# Altium footprint library PCB_main_single_side_STACK.PcbLib: 36 footprints (part 1 of 3)
Each footprint in its own frame and in the unit in brackets; x right, y up, seen from the top. Pads: shape width x height; smd on the part's side, far side on the other; paste and mask are expansions set on the pad; w line width, h text height; cw(c..) or ccw(c..) is an arc to the next point about the centre after c.
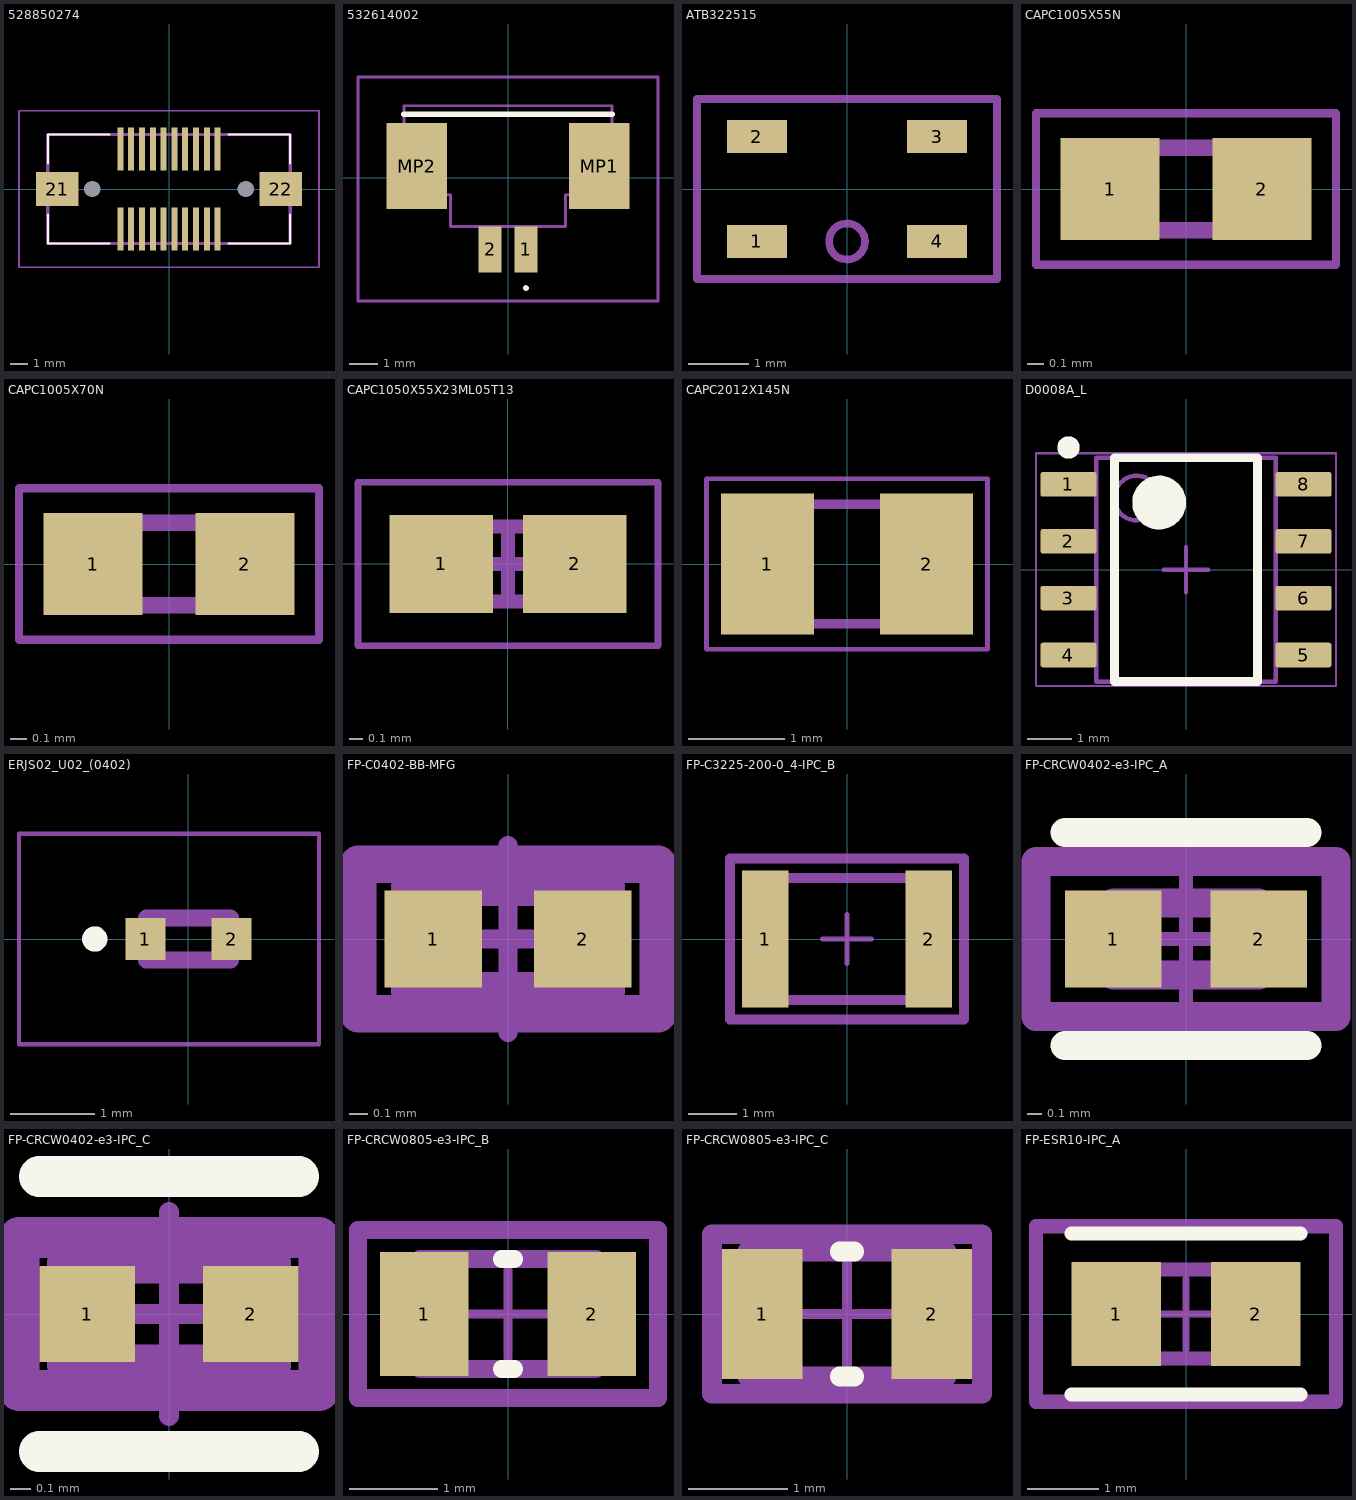
[diagram p0: the footprints below, top view; thin cyan lines are the x and y axes]

## 528850274 [mm]
pads (24):
  rect 0.35x2.5 smd: 1(-2.857,-2.35) 2(-2.857,2.35) 3(-2.223,-2.35) 4(-2.223,2.35) 5(-1.587,-2.35) 6(-1.587,2.35) 7(-0.952,-2.35) 8(-0.952,2.35) 9(-0.317,-2.35) 10(-0.317,2.35) 11(0.317,-2.35) 12(0.317,2.35) 13(0.953,-2.35) 14(0.953,2.35) 15(1.588,-2.35) 16(1.588,2.35) 17(2.223,-2.35) 18(2.223,2.35) 19(2.857,-2.35) 20(2.857,2.35)
  rect 2.5x2 smd: 21(-6.56,0) 22(6.56,0)
  round 0.475 hole 0.95 unplated: 23(-4.51,0) 24(4.51,0)
Top Overlay:
  lines w0.1: -7.11,-1.5 -7.11,-3.2 -3.5,-3.2 ; -7.11,1.5 -7.11,3.2 -3.5,3.2 ; 3.5,-3.2 7.11,-3.2 7.11,-1.5 ; 3.5,3.2 7.11,3.2 7.11,1.5
Top 3D Body:
  lines w0.2: -7.11,-3.2 -7.11,3.2 7.11,3.2 7.11,-3.2 -7.11,-3.2
Top Courtyard:
  lines w0.1: -8.81,-4.6 -8.81,4.6 8.81,4.6 8.81,-4.6 -8.81,-4.6
3D body "52885-0274.stp": height 4.2, standoff -0.61, extent -7.11,-3.2 7.11,3.2

## 532614002 [mm]
pads (4):
  rect 0.8x1.6 smd: 1(0.625,-2.5) 2(-0.625,-2.5)
  rect 2.1x3 smd: MP1(3.175,0.4) MP2(-3.175,0.4)
Top Overlay:
  lines w0.1: 0.625,-3.9 ccw(c0.625,-3.85) 0.625,-3.8 ccw(c0.625,-3.85) 0.625,-3.9
  lines w0.2: -3.625,2.2 3.625,2.2
Top 3D Body:
  lines w0.1: -3.625,-0.6 -3.625,2.5 3.625,2.5 3.625,-0.6 2,-0.6 2,-1.7 -2,-1.7 -2,-0.6 -3.625,-0.6
Top Courtyard:
  lines w0.1: -5.225,-4.3 -5.225,3.5 5.225,3.5 5.225,-4.3 -5.225,-4.3
3D body "53261-4002.stp": height 3.7, standoff 0, extent -4.015,-3.22 4.015,2.5

## ATB322515 [mm]
pads (4):
  rect 1x0.55 smd: 1(-1.5,-0.875) 2(-1.5,0.875) 3(1.5,0.875) 4(1.5,-0.875)
Mechanical 7:
  circle w0.127: c0,-0.875 r0.3
  lines w0.127: -2.5,-1.5 2.5,-1.5 2.5,1.5 -2.5,1.5 -2.5,-1.5
3D body: height 1.21, standoff 0, extent -0.23,-0.885 0.274,-0.383
3D body: height 1.2, standoff 0, extent -1.778,-1.016 1.778,1.016

## CAPC1005X55N [mm]
pads (2):
  rect 0.6x0.62 smd: 1(-0.46,0) 2(0.46,0)
Top 3D Body:
  lines w0.1: -0.5,-0.25 -0.5,0.25 0.5,0.25 0.5,-0.25 -0.5,-0.25
Top Courtyard:
  lines w0.05: -0.91,-0.46 -0.91,0.46 0.91,0.46 0.91,-0.46 -0.91,-0.46
3D body "CL05B104KO5NNNC.stp": height 0.55, standoff 0, extent -0.5,-0.25 0.5,0.25

## CAPC1005X70N [mm]
pads (2):
  rect 0.6x0.62 smd: 1(-0.46,0) 2(0.46,0)
Top 3D Body:
  lines w0.1: -0.5,-0.25 0.5,-0.25 0.5,0.25 -0.5,0.25 -0.5,-0.25
Top Courtyard:
  lines w0.05: -0.91,-0.46 0.91,-0.46 0.91,0.46 -0.91,0.46 -0.91,-0.46
3D body "GRM1555C1H221JA01D.stp": height 0.5, standoff 0, extent -0.5,-0.25 0.5,0.25

## CAPC1050X55X23ML05T13 [mm] "Chip Capacitor, 2-Leads, Body 1.05x0.55mm, IPC Low Density"
height 0.55
pads (2):
  rect 0.76x0.72 smd: 1(-0.49,0) 2(0.49,0)
Top 3D Body:
  lines w0.1: -0.525,-0.275 -0.525,0.275 0.525,0.275 0.525,-0.275 -0.525,-0.275
Top Courtyard:
  lines w0.05: -1.1,-0.6 -1.1,0.6 1.1,0.6 1.1,-0.6 -1.1,-0.6
  lines w0.1: -0.275,0 0.275,0 ; 0,-0.275 0,0.275
3D body: height 0.55, standoff 0, extent -0.295,-0.275 0.295,0.275
3D body: height 0.55, standoff 0, extent -0.525,-0.275 -0.295,0.275
3D body: height 0.55, standoff 0, extent 0.295,-0.275 0.525,0.275

## CAPC2012X145N [mm]
pads (2):
  rect 0.97x1.47 smd: 1(-0.83,0) 2(0.83,0)
Top 3D Body:
  lines w0.1: -1,-0.625 1,-0.625 1,0.625 -1,0.625 -1,-0.625
Top Courtyard:
  lines w0.05: -1.465,-0.89 1.465,-0.89 1.465,0.89 -1.465,0.89 -1.465,-0.89
3D body "GRM21BR61A476ME15L.stp": height 1.45, standoff 0, extent -1,-0.625 1,0.625

## D0008A_L [mm] "SOIC, 8-Leads, Body 5x4mm, Pitch 1.27mm, IPC High Density"
height 1.75
pads (8):
  rrect18% 1.25x0.55 smd: 1(-2.625,1.905) 2(-2.625,0.635) 3(-2.625,-0.635) 4(-2.625,-1.905) 5(2.625,-1.905) 6(2.625,-0.635) 7(2.625,0.635) 8(2.625,1.905)
Top Overlay:
  circle w0.25: c-2.625,2.73 r0.125
  circle w0.6: c-0.6,1.5 r0.3
  lines w0.2: -1.6,-2.5 -1.6,2.5 1.6,2.5 1.6,-2.5 -1.6,-2.5
Mechanical 1:
  text ".Designator" at -1.397,-0.254 h0.7
Top 3D Body:
  circle w0.1: c-1.1,1.6 r0.5
  lines w0.1: -2,-2.5 -2,2.5 2,2.5 2,-2.5 -2,-2.5
Top Courtyard:
  lines w0.05: -3.35,-2.6 -3.35,2.6 3.35,2.6 3.35,-2.6 -3.35,-2.6
  lines w0.1: -0.5,0 0.5,0 ; 0,-0.5 0,0.5
3D body "SOIC-8akaD0008AakaM08A.stp": height 1.63, standoff 0, extent -3,-2.45 3,2.45

## ERJS02_U02_(0402) [mm]
pads (2):
  rect 0.475x0.5 smd: 1(-0.513,0) 2(0.513,0)
Top Overlay:
  circle w0.2: c-1.112,0 r0.05
Top 3D Body:
  lines w0.2: -0.5,-0.25 -0.5,0.25 0.5,0.25 0.5,-0.25 -0.5,-0.25
Top Courtyard:
  lines w0.05: -2.013,-1.25 -2.013,1.25 1.55,1.25 1.55,-1.25 -2.013,-1.25
3D body "ERJU02F1004X.stp": height 0.35, standoff 0, extent -0.5,-0.25 0.5,0.25

## FP-C0402-BB-MFG [mm]
pads (2):
  rect 0.52x0.52 smd paste+0 mask+0: 1(-0.4,0) 2(0.4,0)
Top Assembly:
  lines w0.2: -0.8,-0.4 -0.8,0.4 0.8,0.4 0.8,-0.4 -0.8,-0.4
  text ".Designator" at -1.244,-0.376 h0.7
Top 3D Body:
  lines w0.2: -0.525,-0.275 -0.525,0.275 0.525,0.275 0.525,-0.275 -0.525,-0.275
Top Courtyard:
  lines w0.2: -0.8,-0.4 -0.8,0.4 0.8,0.4 0.8,-0.4 -0.8,-0.4
Top Component Center:
  lines w0.1: -0.5,0 0.5,0 ; 0,-0.5 0,0.5
3D body "Cap_Kemet_C0402C562J5RACTU_eec.STEP": height 0.55, standoff 0, extent -0.5,-0.25 0.5,0.25

## FP-C3225-200-0_4-IPC_B [mm]
pads (2):
  rect 0.953x2.804 smd paste+0 mask+0: 1(-1.675,0) 2(1.675,0)
Top Assembly:
  lines w0.2: -2.402,-1.652 2.402,-1.652 2.402,1.652 -2.402,1.652 -2.402,-1.652
  text ".Designator" at 0.153,0.053 h0.7
Top 3D Body:
  lines w0.2: -1.6,-1.25 1.6,-1.25 1.6,1.25 -1.6,1.25 -1.6,-1.25
Top Courtyard:
  lines w0.2: -2.402,-1.652 2.402,-1.652 2.402,1.652 -2.402,1.652 -2.402,-1.652
Top Component Center:
  lines w0.1: -0.5,0 0.5,0 ; 0,-0.5 0,0.5
3D body "Cap_TDK_C3225X7S2A475M200AB_eec.STEP": height 2.2, standoff 0, extent -1.6,-1.25 1.6,1.25

## FP-CRCW0402-e3-IPC_A [mm]
pads (2):
  rect 0.668x0.672 smd paste+0 mask+0: 1(-0.502,0) 2(0.502,0)
Top Overlay:
  lines w0.2: -0.836,-0.736 0.836,-0.736 ; -0.836,0.736 0.836,0.736
Top Assembly:
  lines w0.2: -1.036,-0.536 1.036,-0.536 1.036,0.536 -1.036,0.536 -1.036,-0.536
  text ".Designator" at 0.153,0.386 h0.7
Top 3D Body:
  lines w0.2: -0.5,-0.25 0.5,-0.25 0.5,0.25 -0.5,0.25 -0.5,-0.25
Top Courtyard:
  lines w0.2: -1.036,-0.536 1.036,-0.536 1.036,0.536 -1.036,0.536 -1.036,-0.536
Top Component Center:
  lines w0.1: -0.5,0 0.5,0 ; 0,-0.5 0,0.5
3D body "Res_Vishay_CRCW04021K00FKED_eec.STEP": height 0.25, standoff 0, extent -1.036,-0.536 1.036,0.536

## FP-CRCW0402-e3-IPC_C [mm]
pads (2):
  rect 0.468x0.472 smd paste+0 mask+0: 1(-0.402,0) 2(0.402,0)
Top Overlay:
  lines w0.2: -0.636,-0.675 0.636,-0.675 ; -0.636,0.675 0.636,0.675
Top Assembly:
  lines w0.2: -0.736,-0.375 0.736,-0.375 0.736,0.375 -0.736,0.375 -0.736,-0.375
  text ".Designator" at 0.153,0.386 h0.7
Top 3D Body:
  lines w0.2: -0.5,-0.25 0.5,-0.25 0.5,0.25 -0.5,0.25 -0.5,-0.25
Top Courtyard:
  lines w0.2: -0.736,-0.375 0.736,-0.375 0.736,0.375 -0.736,0.375 -0.736,-0.375
Top Component Center:
  lines w0.1: -0.5,0 0.5,0 ; 0,-0.5 0,0.5
3D body "Res_Vishay_CRCW04021K00FKED_eec.STEP": height 0.4, standoff 0, extent -0.5,-0.25 0.5,0.25

## FP-CRCW0805-e3-IPC_B [mm]
pads (2):
  rect 1.007x1.408 smd paste+0 mask+0: 1(-0.951,0) 2(0.951,0)
Top Overlay:
  lines w0.2: -0.073,-0.625 0.073,-0.625 ; -0.073,0.625 0.073,0.625
Top Assembly:
  lines w0.2: -1.704,-0.954 1.704,-0.954 1.704,0.954 -1.704,0.954 -1.704,-0.954
  text ".Designator" at 0.153,0.386 h0.7
Top 3D Body:
  lines w0.2: -1,-0.625 1,-0.625 1,0.625 -1,0.625 -1,-0.625
Top Courtyard:
  lines w0.2: -1.704,-0.954 1.704,-0.954 1.704,0.954 -1.704,0.954 -1.704,-0.954
Top Component Center:
  lines w0.1: -0.5,0 0.5,0 ; 0,-0.5 0,0.5
3D body "Res_Vishay_CRCW0805100KFKEA_eec.STEP": height 0.25, standoff 0, extent -1.704,-0.954 1.704,0.954

## FP-CRCW0805-e3-IPC_C [mil]
pads (2):
  rect 31.75x51.5 smd paste+0 mask+0: 1(-33.5,0) 2(33.5,0)
Top Overlay:
  lines w7.87: -2.86,-24.61 2.86,-24.61 ; -2.86,24.61 2.86,24.61
Top Assembly:
  lines w7.87: -53.31,-31.5 53.31,-31.5 53.31,31.5 -53.31,31.5 -53.31,-31.5
  text ".Designator" at 6.02,15.21 h27.56
Top 3D Body:
  lines w7.87: -39.37,-24.61 39.37,-24.61 39.37,24.61 -39.37,24.61 -39.37,-24.61
Top Courtyard:
  lines w7.87: -53.31,-31.5 53.31,-31.5 53.31,31.5 -53.31,31.5 -53.31,-31.5
Top Component Center:
  lines w3.94: -19.68,0 19.68,0 ; 0,-19.68 0,19.68
3D body "Res_Vishay_CRCW0805100KFKEA_eec.STEP": height 10, standoff 0, extent -53.31,-31.5 53.31,31.5

## FP-ESR10-IPC_A [mm]
pads (2):
  rect 1.258x1.462 smd paste+0 mask+0: 1(-0.977,0) 2(0.977,0)
Top Overlay:
  lines w0.2: -1.606,-1.131 1.606,-1.131 ; -1.606,1.131 1.606,1.131
Top Assembly:
  lines w0.2: -2.106,-1.231 -2.106,1.231 2.106,1.231 2.106,-1.231 -2.106,-1.231
  text ".Designator" at 0.153,0.386 h0.7
Top 3D Body:
  lines w0.2: -1,-0.625 -1,0.625 1,0.625 1,-0.625 -1,-0.625
Top Courtyard:
  lines w0.2: -2.106,-1.231 -2.106,1.231 2.106,1.231 2.106,-1.231 -2.106,-1.231
Top Component Center:
  lines w0.1: -0.5,0 0.5,0 ; 0,-0.5 0,0.5
3D body "Res_Rohm_ESR10EZPF49R9_eec.STEP": height 0.25, standoff 0, extent -2.106,-1.231 2.106,1.231